# Altium schematic symbol library hl_common.SchLib: 1 symbol
Pins are listed as number, name and electrical type; pins without a type are passive.

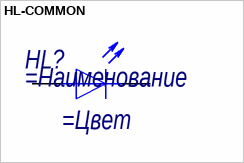
[diagram p0: symbol HL-COMMON]

## HL-COMMON
designator HL?
=Описание
pins: 1, 2